# Altium footprint library 贴片元器件.PCBLIB: 208 footprints (part 8 of 13)
Each footprint in its own frame and in the unit in brackets; x right, y up, seen from the top. Pads: shape width x height; smd on the part's side, far side on the other; paste and mask are expansions set on the pad; w line width, h text height; cw(c..) or ccw(c..) is an arc to the next point about the centre after c.
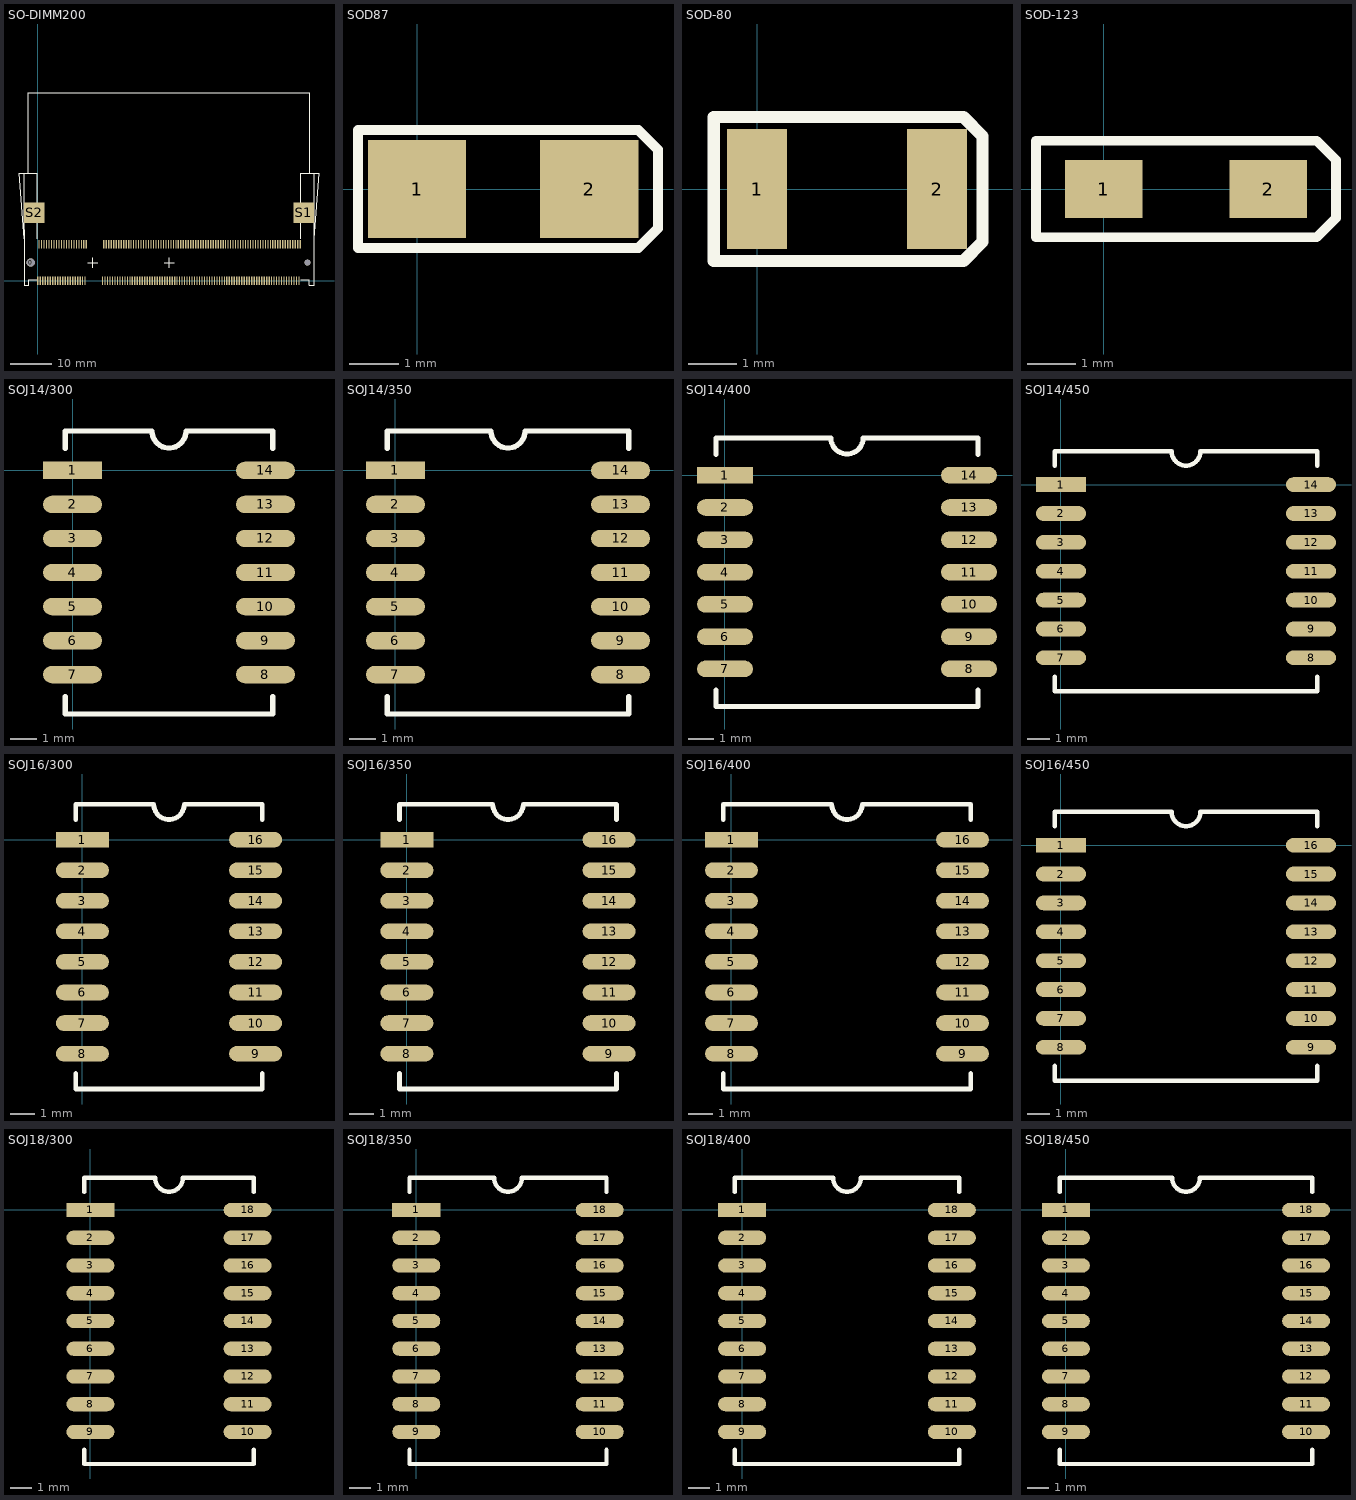
[diagram p7: the footprints below, top view; thin cyan lines are the x and y axes]

## SO-DIMM200 [mm]
pads (204):
  round 2 hole 2: 0(-1.75,4.4)
  round 1.4 hole 1.4: 0(65.05,4.4)
  rect 0.3x2 smd: A1(0,0) A2(0.6,0) A3(1.2,0) A4(1.8,0) A5(2.4,0) A6(3,0) A7(3.6,0) A8(4.2,0) A9(4.8,0) A10(5.4,0) A11(6,0) A12(6.6,0) A13(7.2,0) A14(7.8,0) A15(8.4,0) A16(9,0) A17(9.6,0) A18(10.2,0) A19(10.8,0) A20(11.4,0) A21(15.6,0) A22(16.2,0) A23(16.8,0) A24(17.4,0) A25(18,0) A26(18.6,0) A27(19.2,0) A28(19.8,0) A29(20.4,0) A30(21,0) A31(21.6,0) A32(22.2,0) A33(22.8,0) A34(23.4,0) A35(24,0) A36(24.6,0) A37(25.2,0) A38(25.8,0) A39(26.4,0) A40(27,0) A41(27.6,0) A42(28.2,0) A43(28.8,0) A44(29.4,0) A45(30,0) A46(30.6,0) A47(31.2,0) A48(31.8,0) A49(32.4,0) A50(33,0) A51(33.6,0) A52(34.2,0) A53(34.8,0) A54(35.4,0) A55(36,0) A56(36.6,0) A57(37.2,0) A58(37.8,0) A59(38.4,0) A60(39,0) A61(39.6,0) A62(40.2,0) A63(40.8,0) A64(41.4,0) A65(42,0) A66(42.6,0) A67(43.2,0) A68(43.8,0) A69(44.4,0) A70(45,0) A71(45.6,0) A72(46.2,0) A73(46.8,0) A74(47.4,0) A75(48,0) A76(48.6,0) A77(49.2,0) A78(49.8,0) A79(50.4,0) A80(51,0) A81(51.6,0) A82(52.2,0) A83(52.8,0) A84(53.4,0) A85(54,0) A86(54.6,0) A87(55.2,0) A88(55.8,0) A89(56.4,0) A90(57,0) A91(57.6,0) A92(58.2,0) A93(58.8,0) A94(59.4,0) A95(60,0) A96(60.6,0) A97(61.2,0) A98(61.8,0) A99(62.4,0) A100(63,0) B1(0.3,8.8) B2(0.9,8.8) B3(1.5,8.8) B4(2.1,8.8) B5(2.7,8.8) B6(3.3,8.8) B7(3.9,8.8) B8(4.5,8.8) B9(5.1,8.8) B10(5.7,8.8) B11(6.3,8.8) B12(6.9,8.8) B13(7.5,8.8) B14(8.1,8.8) B15(8.7,8.8) B16(9.3,8.8) B17(9.9,8.8) B18(10.5,8.8) B19(11.1,8.8) B20(11.7,8.8) B21(15.9,8.8) B22(16.5,8.8) B23(17.1,8.8) B24(17.7,8.8) B25(18.3,8.8) B26(18.9,8.8) B27(19.5,8.8) B28(20.1,8.8) B29(20.7,8.8) B30(21.3,8.8) B31(21.9,8.8) B32(22.5,8.8) B33(23.1,8.8) B34(23.7,8.8) B35(24.3,8.8) B36(24.9,8.8) B37(25.5,8.8) B38(26.1,8.8) B39(26.7,8.8) B40(27.3,8.8) B41(27.9,8.8) B42(28.5,8.8) B43(29.1,8.8) B44(29.7,8.8) B45(30.3,8.8) B46(30.9,8.8) B47(31.5,8.8) B48(32.1,8.8) B49(32.7,8.8) B50(33.3,8.8) B51(33.9,8.8) B52(34.5,8.8) B53(35.1,8.8) B54(35.7,8.8) B55(36.3,8.8) B56(36.9,8.8) B57(37.5,8.8) B58(38.1,8.8) B59(38.7,8.8) B60(39.3,8.8) B61(39.9,8.8) B62(40.5,8.8) B63(41.1,8.8) B64(41.7,8.8) B65(42.3,8.8) B66(42.9,8.8) B67(43.5,8.8) B68(44.1,8.8) B69(44.7,8.8) B70(45.3,8.8) B71(45.9,8.8) B72(46.5,8.8) B73(47.1,8.8) B74(47.7,8.8) B75(48.3,8.8) B76(48.9,8.8) B77(49.5,8.8) B78(50.1,8.8) B79(50.7,8.8) B80(51.3,8.8) B81(51.9,8.8) B82(52.5,8.8) B83(53.1,8.8) B84(53.7,8.8) B85(54.3,8.8) B86(54.9,8.8) B87(55.5,8.8) B88(56.1,8.8) B89(56.7,8.8) B90(57.3,8.8) B91(57.9,8.8) B92(58.5,8.8) B93(59.1,8.8) B94(59.7,8.8) B95(60.3,8.8) B96(60.9,8.8) B97(61.5,8.8) B98(62.1,8.8) B99(62.7,8.8) B100(63.3,8.8)
  rect 5x5 smd: S1(64.15,16.4) S2(-0.85,16.4)
TopOverlay:
  lines w0.254: -3.35,10.15 -4.55,25.9 -3.35,25.9 ; -2.55,25.9 -0.1,25.9 -0.1,10.6 -0.1,10.15 ; -2.35,27.7 -2.35,45.4 65.65,45.4 65.65,25.9 66.63,25.9 ; -2.35,27.8 -2.35,25.9 -3.35,25.9 ; -0.4,0.2 -2.15,0.2 ; -0.1,0.2 -2.15,0.2 ; 12,4.4 14.4,4.4 ; 13.2,3.2 13.2,5.6 ; 30.45,4.4 32.85,4.4 ; 31.65,3.2 31.65,5.6 ; 63.4,0.2 65.45,0.2 ; 63.4,10.15 63.4,10.6 63.4,25.9 65.85,25.9 ; 63.7,0.2 65.45,0.2 ; 66.63,10.15 67.83,25.9 66.63,25.9 ; -3.35,25.9 -3.33,-1.1 ; -3.33,-1.1 -2.15,-1.1 ; -3.33,-1.1 -2.15,-1.1 ; -2.15,-1.1 -2.15,0.2 ; -2.15,-1.1 -2.15,0.2 ; 65.45,-1.1 66.63,-1.1 ; 65.45,-1.1 65.45,0.2 ; 65.45,-1.1 66.63,-1.1 ; 65.45,-1.1 65.45,0.2 ; 66.63,-1.1 66.63,25.9

## SOD87 [mm]
pads (2):
  rect 2x2 smd: 1(0,0) 2(3.5,0)
TopOverlay:
  lines w0.203: -1.2,-1.2 -1.2,1.2 4.5,1.2 4.9,0.8 4.9,-0.8 4.5,-1.2 -1.2,-1.2

## SOD-80 [mm]
pads (2):
  rect 1.25x2.5 smd: 1(0,0) 2(3.75,0)
TopOverlay:
  lines w0.254: 4.7,-0.5 4.7,-1.1 ; 4.7,-1.1 4.7,1.1 4.3,1.5 -0.9,1.5 -0.9,-1.5 4.3,-1.5 4.7,-1.1

## SOD-123 [mm]
pads (2):
  rect 1.6x1.2 smd: 1(0,0) 2(3.4,0)
TopOverlay:
  lines w0.2: -1.4,-1 -1.4,1 4.4,1 4.8,0.6 4.8,-0.6 4.4,-1 -1.4,-1

## SOJ14/300 [mm]
pads (14):
  rect 2.2x0.65 smd: 1(0,0)
  oval 2.2x0.65 smd: 2(0,-1.27) 3(0,-2.54) 4(0,-3.81) 5(0,-5.08) 6(0,-6.35) 7(0,-7.62) 8(7.2,-7.62) 9(7.2,-6.35) 10(7.2,-5.08) 11(7.2,-3.81) 12(7.2,-2.54) 13(7.2,-1.27) 14(7.2,0)
TopOverlay:
  lines w0.2: -0.275,-8.445 -0.275,-9.09 7.475,-9.09 7.475,-8.445 ; -0.275,0.825 -0.275,1.47 2.965,1.47 ccw(c3.6,1.47) 4.235,1.47 7.475,1.47 7.475,0.825

## SOJ14/350 [mm]
pads (14):
  rect 2.2x0.65 smd: 1(0,0)
  oval 2.2x0.65 smd: 2(0,-1.27) 3(0,-2.54) 4(0,-3.81) 5(0,-5.08) 6(0,-6.35) 7(0,-7.62) 8(8.4,-7.62) 9(8.4,-6.35) 10(8.4,-5.08) 11(8.4,-3.81) 12(8.4,-2.54) 13(8.4,-1.27) 14(8.4,0)
TopOverlay:
  lines w0.2: -0.31,-8.445 -0.31,-9.09 8.71,-9.09 8.71,-8.445 ; -0.31,0.825 -0.31,1.47 3.565,1.47 ccw(c4.2,1.47) 4.835,1.47 8.71,1.47 8.71,0.825

## SOJ14/400 [mm]
pads (14):
  rect 2.2x0.65 smd: 1(0,0)
  oval 2.2x0.65 smd: 2(0,-1.27) 3(0,-2.54) 4(0,-3.81) 5(0,-5.08) 6(0,-6.35) 7(0,-7.62) 8(9.6,-7.62) 9(9.6,-6.35) 10(9.6,-5.08) 11(9.6,-3.81) 12(9.6,-2.54) 13(9.6,-1.27) 14(9.6,0)
TopOverlay:
  lines w0.2: -0.345,-8.445 -0.345,-9.09 9.945,-9.09 9.945,-8.445 ; -0.345,0.825 -0.345,1.47 4.165,1.47 ccw(c4.8,1.47) 5.435,1.47 9.945,1.47 9.945,0.825

## SOJ14/450 [mm]
pads (14):
  rect 2.2x0.65 smd: 1(0,0)
  oval 2.2x0.65 smd: 2(0,-1.27) 3(0,-2.54) 4(0,-3.81) 5(0,-5.08) 6(0,-6.35) 7(0,-7.62) 8(11,-7.62) 9(11,-6.35) 10(11,-5.08) 11(11,-3.81) 12(11,-2.54) 13(11,-1.27) 14(11,0)
TopOverlay:
  lines w0.2: -0.28,-8.445 -0.28,-9.09 11.28,-9.09 11.28,-8.445 ; -0.28,0.825 -0.28,1.47 4.865,1.47 ccw(c5.5,1.47) 6.135,1.47 11.28,1.47 11.28,0.825

## SOJ16/300 [mm]
pads (16):
  rect 2.2x0.65 smd: 1(0,0)
  oval 2.2x0.65 smd: 2(0,-1.27) 3(0,-2.54) 4(0,-3.81) 5(0,-5.08) 6(0,-6.35) 7(0,-7.62) 8(0,-8.89) 9(7.2,-8.89) 10(7.2,-7.62) 11(7.2,-6.35) 12(7.2,-5.08) 13(7.2,-3.81) 14(7.2,-2.54) 15(7.2,-1.27) 16(7.2,0)
TopOverlay:
  lines w0.2: -0.275,-9.715 -0.275,-10.36 7.475,-10.36 7.475,-9.715 ; -0.275,0.825 -0.275,1.47 2.965,1.47 ccw(c3.6,1.47) 4.235,1.47 7.475,1.47 7.475,0.825

## SOJ16/350 [mm]
pads (16):
  rect 2.2x0.65 smd: 1(0,0)
  oval 2.2x0.65 smd: 2(0,-1.27) 3(0,-2.54) 4(0,-3.81) 5(0,-5.08) 6(0,-6.35) 7(0,-7.62) 8(0,-8.89) 9(8.4,-8.89) 10(8.4,-7.62) 11(8.4,-6.35) 12(8.4,-5.08) 13(8.4,-3.81) 14(8.4,-2.54) 15(8.4,-1.27) 16(8.4,0)
TopOverlay:
  lines w0.2: -0.31,-9.715 -0.31,-10.36 8.71,-10.36 8.71,-9.715 ; -0.31,0.825 -0.31,1.47 3.565,1.47 ccw(c4.2,1.47) 4.835,1.47 8.71,1.47 8.71,0.825

## SOJ16/400 [mm]
pads (16):
  rect 2.2x0.65 smd: 1(0,0)
  oval 2.2x0.65 smd: 2(0,-1.27) 3(0,-2.54) 4(0,-3.81) 5(0,-5.08) 6(0,-6.35) 7(0,-7.62) 8(0,-8.89) 9(9.6,-8.89) 10(9.6,-7.62) 11(9.6,-6.35) 12(9.6,-5.08) 13(9.6,-3.81) 14(9.6,-2.54) 15(9.6,-1.27) 16(9.6,0)
TopOverlay:
  lines w0.2: -0.345,-9.715 -0.345,-10.36 9.945,-10.36 9.945,-9.715 ; -0.345,0.825 -0.345,1.47 4.165,1.47 ccw(c4.8,1.47) 5.435,1.47 9.945,1.47 9.945,0.825

## SOJ16/450 [mm]
pads (16):
  rect 2.2x0.65 smd: 1(0,0)
  oval 2.2x0.65 smd: 2(0,-1.27) 3(0,-2.54) 4(0,-3.81) 5(0,-5.08) 6(0,-6.35) 7(0,-7.62) 8(0,-8.89) 9(11,-8.89) 10(11,-7.62) 11(11,-6.35) 12(11,-5.08) 13(11,-3.81) 14(11,-2.54) 15(11,-1.27) 16(11,0)
TopOverlay:
  lines w0.2: -0.28,-9.715 -0.28,-10.36 11.28,-10.36 11.28,-9.715 ; -0.28,0.825 -0.28,1.47 4.865,1.47 ccw(c5.5,1.47) 6.135,1.47 11.28,1.47 11.28,0.825

## SOJ18/300 [mm]
pads (18):
  rect 2.2x0.65 smd: 1(0,0)
  oval 2.2x0.65 smd: 2(0,-1.27) 3(0,-2.54) 4(0,-3.81) 5(0,-5.08) 6(0,-6.35) 7(0,-7.62) 8(0,-8.89) 9(0,-10.16) 10(7.2,-10.16) 11(7.2,-8.89) 12(7.2,-7.62) 13(7.2,-6.35) 14(7.2,-5.08) 15(7.2,-3.81) 16(7.2,-2.54) 17(7.2,-1.27) 18(7.2,0)
TopOverlay:
  lines w0.2: -0.275,-10.985 -0.275,-11.63 7.475,-11.63 7.475,-10.985 ; -0.275,0.825 -0.275,1.47 2.965,1.47 ccw(c3.6,1.47) 4.235,1.47 7.475,1.47 7.475,0.825

## SOJ18/350 [mm]
pads (18):
  rect 2.2x0.65 smd: 1(0,0)
  oval 2.2x0.65 smd: 2(0,-1.27) 3(0,-2.54) 4(0,-3.81) 5(0,-5.08) 6(0,-6.35) 7(0,-7.62) 8(0,-8.89) 9(0,-10.16) 10(8.4,-10.16) 11(8.4,-8.89) 12(8.4,-7.62) 13(8.4,-6.35) 14(8.4,-5.08) 15(8.4,-3.81) 16(8.4,-2.54) 17(8.4,-1.27) 18(8.4,0)
TopOverlay:
  lines w0.2: -0.31,-10.985 -0.31,-11.63 8.71,-11.63 8.71,-10.985 ; -0.31,0.825 -0.31,1.47 3.565,1.47 ccw(c4.2,1.47) 4.835,1.47 8.71,1.47 8.71,0.825

## SOJ18/400 [mm]
pads (18):
  rect 2.2x0.65 smd: 1(0,0)
  oval 2.2x0.65 smd: 2(0,-1.27) 3(0,-2.54) 4(0,-3.81) 5(0,-5.08) 6(0,-6.35) 7(0,-7.62) 8(0,-8.89) 9(0,-10.16) 10(9.6,-10.16) 11(9.6,-8.89) 12(9.6,-7.62) 13(9.6,-6.35) 14(9.6,-5.08) 15(9.6,-3.81) 16(9.6,-2.54) 17(9.6,-1.27) 18(9.6,0)
TopOverlay:
  lines w0.2: -0.345,-10.985 -0.345,-11.63 9.945,-11.63 9.945,-10.985 ; -0.345,0.825 -0.345,1.47 4.165,1.47 ccw(c4.8,1.47) 5.435,1.47 9.945,1.47 9.945,0.825

## SOJ18/450 [mm]
pads (18):
  rect 2.2x0.65 smd: 1(0,0)
  oval 2.2x0.65 smd: 2(0,-1.27) 3(0,-2.54) 4(0,-3.81) 5(0,-5.08) 6(0,-6.35) 7(0,-7.62) 8(0,-8.89) 9(0,-10.16) 10(11,-10.16) 11(11,-8.89) 12(11,-7.62) 13(11,-6.35) 14(11,-5.08) 15(11,-3.81) 16(11,-2.54) 17(11,-1.27) 18(11,0)
TopOverlay:
  lines w0.2: -0.28,-10.985 -0.28,-11.63 11.28,-11.63 11.28,-10.985 ; -0.28,0.825 -0.28,1.47 4.865,1.47 ccw(c5.5,1.47) 6.135,1.47 11.28,1.47 11.28,0.825